# Altium footprint library TC2030.PcbLib: 1 footprints
Each footprint in its own frame and in the unit in brackets; x right, y up, seen from the top. Pads: shape width x height; smd on the part's side, far side on the other; paste and mask are expansions set on the pad; w line width, h text height; cw(c..) or ccw(c..) is an arc to the next point about the centre after c.
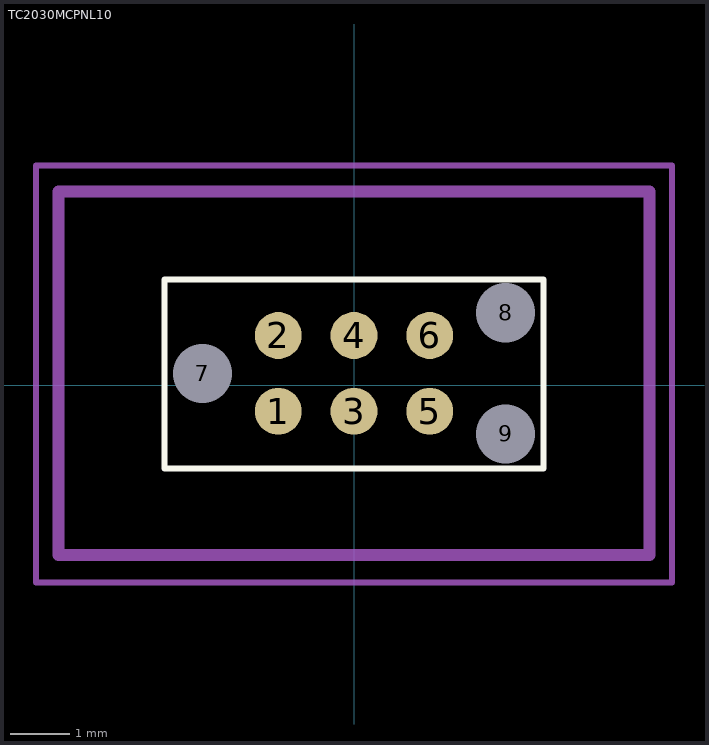
[diagram p0: the footprint, top view; thin cyan lines are the x and y axes]

## TC2030MCPNL10 [mm]
pads (9):
  round 0.787 smd: 1(-1.27,-0.434) 2(-1.27,0.836) 3(0,-0.434) 4(0,0.836) 5(1.27,-0.434) 6(1.27,0.836)
  round 0.495 hole 0.991 unplated: 7(-2.54,0.201) 8(2.54,1.217) 9(2.54,-0.815)
Top Overlay:
  lines w0.1: -3.175,-1.397 -3.175,1.778 3.175,1.778 3.175,-1.397 -3.175,-1.397
Mechanical 13:
  lines w0.2: -4.953,-2.847 -4.953,3.249 4.953,3.249 4.953,-2.847 -4.953,-2.847
Mechanical 15:
  lines w0.1: -5.334,-3.302 -5.334,3.683 5.334,3.683 5.334,-3.302 -5.334,-3.302